# Altium schematic symbol library RES_100R_0603.SchLib: 1 symbol
Pins are listed as number, name and electrical type; pins without a type are passive.

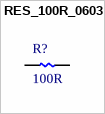
[diagram p0: symbol RES_100R_0603]

## RES_100R_0603
designator R?, comment 100R
100 Ohms ±1% 0.25W, 1/4W Chip Resistor 0603 (1608 Metric) Pulse Withstanding Thick Film; Supplier 1: Digi-Key; Supplier Part Number 1: 541-3244-1-ND
footprint Res_0603_M (Designed to work with TE and Yageo Parts, using Yageo dimensions, Maximum Density courtyard, silk at courtyard. / Datasheet: https://www.yageogroup.com/content/Resource%20Library/Product%20Guide-Catalog/yageo_PYu-R_Mount_10_19050818_343.pdf)
footprint Res_0603_N (Designed to work with TE and Yageo Parts, using Yageo dimensions, Nominal courtyard, silk at courtyard. / Datasheet: https://www.yageogroup.com/content/Resource%20Library/Product%20Guide-Catalog/yageo_PYu-R_Mount_10_19050818_343.pdf)
pins: 1, 2